# Altium footprint library LOGO-STD.PcbLib: 1 footprints
Each footprint in its own frame and in the unit in brackets; x right, y up, seen from the top. Pads: shape width x height; smd on the part's side, far side on the other; paste and mask are expansions set on the pad; w line width, h text height; cw(c..) or ccw(c..) is an arc to the next point about the centre after c.
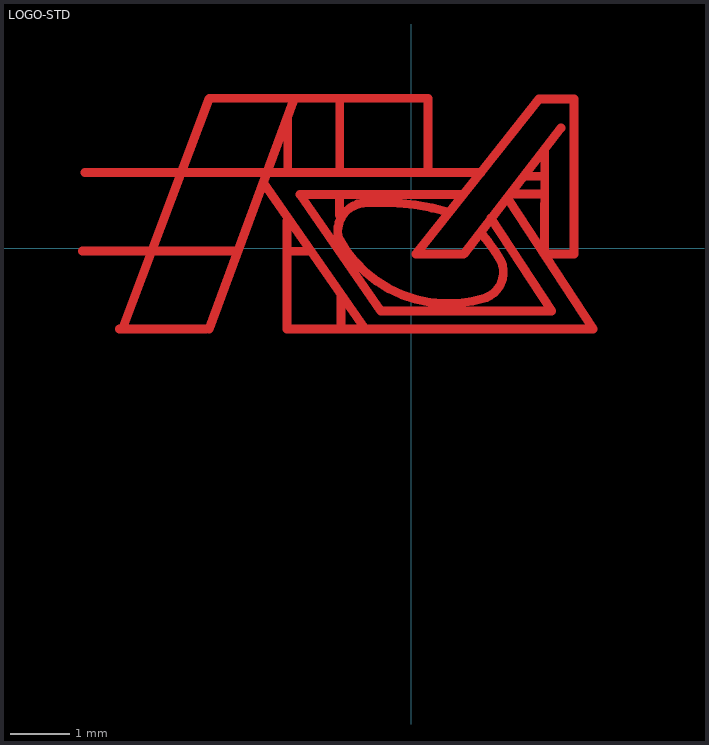
[diagram p0: the footprint, top view; thin cyan lines are the x and y axes]

## LOGO-STD [mm]
Top Layer:
  lines w0.15: -5.578,-0.049 -4.445,-0.049 ; -5.538,1.284 -2.451,1.284 1.18,1.284 ; -4.953,-1.372 -3.48,-1.372 ; -4.902,-1.372 -3.429,2.54 0.279,2.54 ; -4.445,-0.051 -2.972,-0.051 ; -3.429,-1.372 -2.007,2.489 ; -2.514,1.113 -0.787,-1.372 ; -2.109,-0.054 -1.732,-0.054 ; -2.109,0.457 -2.109,-1.372 3.082,-1.374 1.651,0.813 ; -2.098,1.284 -2.098,2.203 ; -1.245,0.203 cw(c-0.762,0.279) -0.838,0.762 ; -1.235,0.168 ccw(c0.62,1.159) 1.271,-0.84 ccw(c1.093,-0.408) 1.525,-0.23 ccw(c-0.845,-1.558) 1.17,0.263 ; -1.218,0.906 -1.218,0.562 ccw(c-1.184,0.562) -1.208,0.538 ; -1.216,1.284 -1.215,2.535 ; -1.194,-1.364 -1.194,-0.814 ; -0.82,0.764 cw(c-0.525,-3.38) 0.635,0.61 ; 0.283,1.284 0.283,2.54 ; 0.858,0.906 -1.889,0.906 -0.52,-1.067 2.38,-1.067 1.346,0.508 ; 1.7,0.915 2.246,0.915 ; 1.905,1.219 2.229,1.219 ; 2.261,1.66 2.261,-0.102 2.756,-0.102 2.757,2.527 2.166,2.527 1.18,1.284 ; 2.536,2.038 0.889,-0.102 0.08,-0.102 1.18,1.284
  text "europe" at 3.32,-1.361 h1.52
  text "XESS" at 3.029,-0.025 h2